# Altium footprint library KTIR0711S.PcbLib: 1 footprints
Each footprint in its own frame and in the unit in brackets; x right, y up, seen from the top. Pads: shape width x height; smd on the part's side, far side on the other; paste and mask are expansions set on the pad; w line width, h text height; cw(c..) or ccw(c..) is an arc to the next point about the centre after c.
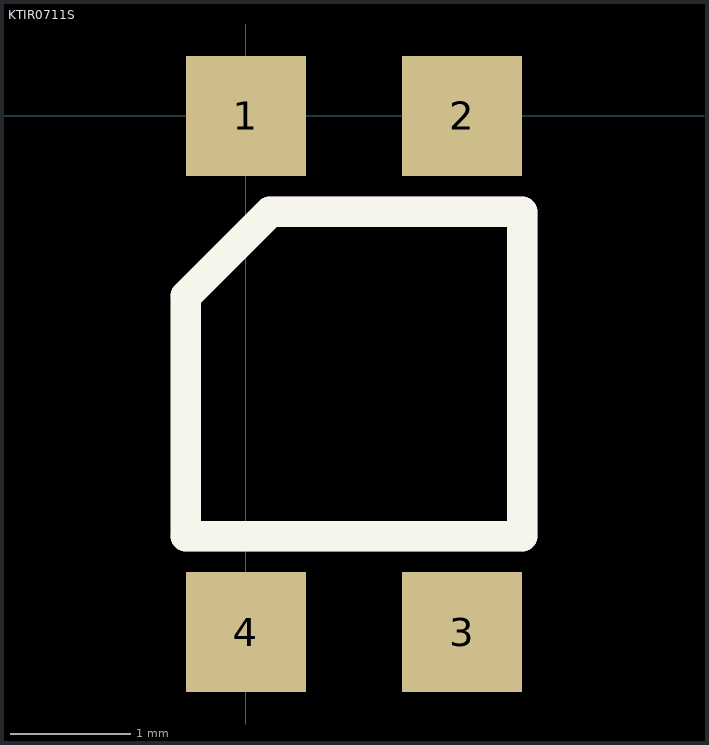
[diagram p0: the footprint, top view; thin cyan lines are the x and y axes]

## KTIR0711S [mm]
pads (4):
  rect 1x1 smd: 1(0,0) 2(1.8,0) 3(1.8,-4.3) 4(0,-4.3)
Top Overlay:
  lines w0.254: -0.5,-3.5 2.3,-3.5 2.3,-0.8 0.2,-0.8 -0.5,-1.5 -0.5,-3.5
Mechanical 1:
  lines w0.254: -0.5,-3.5 2.3,-3.5 2.3,-0.8 0.2,-0.8 -0.5,-1.5
3D body: height 1.5, standoff 0, extent -0.5,-3.5 2.3,-0.8